# Altium footprint library Specific_Manufacturers.PcbLib: 21 footprints (part 2 of 2)
Each footprint in its own frame and in the unit in brackets; x right, y up, seen from the top. Pads: shape width x height; smd on the part's side, far side on the other; paste and mask are expansions set on the pad; w line width, h text height; cw(c..) or ccw(c..) is an arc to the next point about the centre after c.
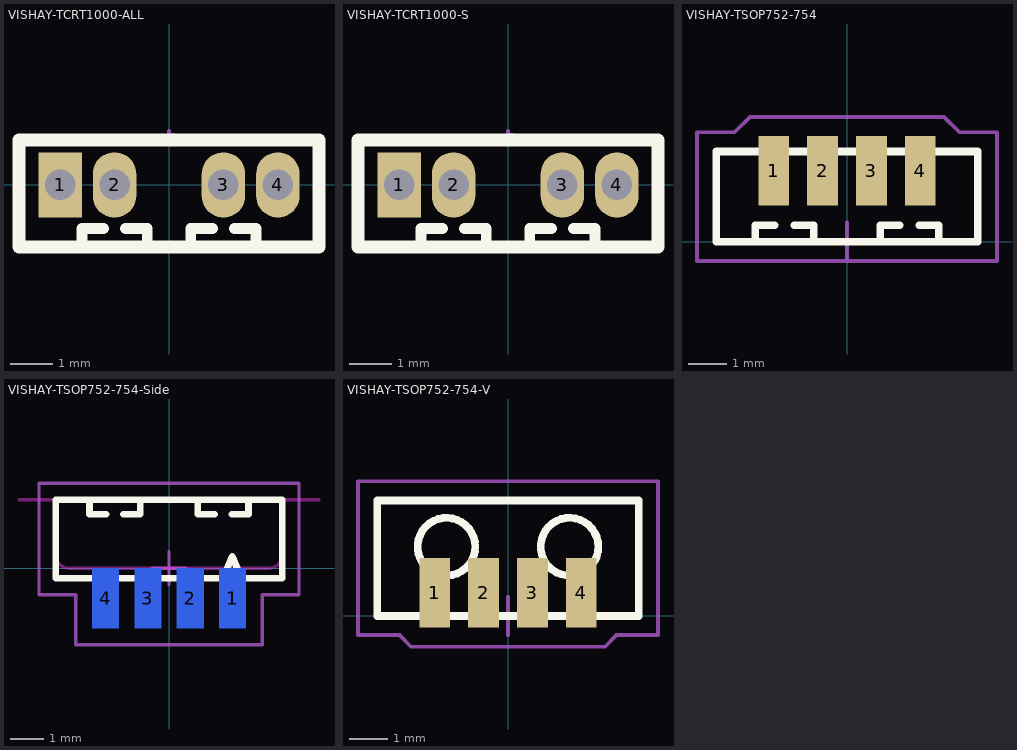
[diagram p1: the footprints below, top view; thin cyan lines are the x and y axes]

## VISHAY-TCRT1000-ALL [mil] "all versions"
pads (4):
  rect 40x60 hole 28: 1(-100,0)
  oval 40x60 hole 28: 2(-50,0) 3(50,0) 4(100,0)
Top Overlay:
  lines w10: -80,-57.09 -80,-40 -60,-40 ; -40,-40 -20,-40 -20,-57.09 ; 20,-57.09 20,-40 40,-40 ; 60,-40 80,-40 80,-57.09
  lines w12: -137.8,-57.09 -137.8,41.34 137.8,41.34 137.8,-57.09 -137.8,-57.09
TopBody:
  lines w0.39: -109.84,-5.9 -109.84,5.91 -90.15,5.91 -90.15,-5.9 -109.84,-5.9 ; -59.84,-5.9 -40.15,-5.9 -40.15,5.91 -59.84,5.91 -59.84,-5.9 ; 40.16,-5.9 40.16,5.91 59.85,5.91 59.85,-5.9 40.16,-5.9 ; 90.16,-5.9 90.16,5.91 109.85,5.91 109.85,-5.9 90.16,-5.9
  lines w3.94: 0,49.61 0,45.67 3.94,45.67
3D body "TCRT1000-S -V.STEP": height 98.43, standoff -27.56, extent -141.72,-5.9 141.74,194.89
3D body: height 7.87, standoff -47.24, extent 90.16,-5.9 109.85,5.91
3D body: height 7.87, standoff -47.24, extent 40.16,-5.9 59.85,5.91
3D body: height 7.87, standoff -47.24, extent -109.84,-5.9 -90.15,5.91
3D body: height 7.87, standoff -47.24, extent -59.84,-5.9 -40.15,5.91
3D body "TCRT1000-S.STEP": height 248.03, standoff -27.56, extent -141.72,-57.08 141.74,41.34
3D body "TCRT1000-S -45.STEP": height 225.41, standoff -27.56, extent -141.72,-14.25 141.74,169.48
3D body "TCRT1000-S -45-S.STEP": height 183.68, standoff -41.73, extent -141.72,-14.25 141.74,169.48
3D body "TCRT1000-45.STEP": height 194.98, standoff -77.68, extent -141.72,-80.83 141.74,191.83

## VISHAY-TCRT1000-S [mil] "Short version : 7mm instead 16.5"
pads (4):
  rect 40x60 hole 28: 1(-100,0)
  oval 40x60 hole 28: 2(-50,0) 3(50,0) 4(100,0)
Top Overlay:
  lines w10: -80,-57.09 -80,-40 -60,-40 ; -40,-40 -20,-40 -20,-57.09 ; 20,-57.09 20,-40 40,-40 ; 60,-40 80,-40 80,-57.09
  lines w12: -137.8,-57.09 -137.8,41.34 137.8,41.34 137.8,-57.09 -137.8,-57.09
TopBody:
  lines w0.39: -109.84,-5.9 -109.84,5.91 -90.15,5.91 -90.15,-5.9 -109.84,-5.9 ; -59.84,-5.9 -40.15,-5.9 -40.15,5.91 -59.84,5.91 -59.84,-5.9 ; 40.16,-5.9 40.16,5.91 59.85,5.91 59.85,-5.9 40.16,-5.9 ; 90.16,-5.9 90.16,5.91 109.85,5.91 109.85,-5.9 90.16,-5.9
  lines w3.94: 0,49.61 0,45.67 3.94,45.67
3D body "TCRT1000-S -V.STEP": height 98.43, standoff -27.56, extent -141.72,-5.9 141.74,194.89
3D body: height 7.87, standoff -47.24, extent 90.16,-5.9 109.85,5.91
3D body: height 7.87, standoff -47.24, extent 40.16,-5.9 59.85,5.91
3D body: height 7.87, standoff -47.24, extent -109.84,-5.9 -90.15,5.91
3D body: height 7.87, standoff -47.24, extent -59.84,-5.9 -40.15,5.91
3D body "TCRT1000-S.STEP": height 248.03, standoff -27.56, extent -141.72,-57.08 141.74,41.34
3D body "TCRT1000-S -45.STEP": height 225.41, standoff -27.56, extent -141.72,-14.25 141.74,169.48
3D body "TCRT1000-S -45-S.STEP": height 183.68, standoff -41.73, extent -141.72,-14.25 141.74,169.48
3D body "TCRT1000-45.STEP": height 194.98, standoff -77.68, extent -141.72,-80.83 141.74,191.83

## VISHAY-TSOP752-754 [mm] "IR Receiver Modules"
height 3
pads (4):
  rect 0.8x1.8 smd: 1(-1.905,1.85) 2(-0.635,1.85) 3(0.635,1.85) 4(1.905,1.85)
Top Overlay:
  lines w0.2: -2.387,0 -2.387,0.434 -1.879,0.434 ; -2.17,2.35 -1.895,1.7 -1.62,2.35 ; -1.371,0.434 -0.863,0.434 -0.863,0 ; 0.863,0 0.863,0.434 1.371,0.434 ; 1.879,0.434 2.387,0.434 2.387,0 ; -3.4,0 -3.4,2.35 3.4,2.35 3.4,0 -3.4,0
TopCourtyard:
  lines w0.1: -0.5,0 0.5,0 ; 0,-0.5 0,0.5 ; -3.9,-0.5 -3.9,2.85 -2.925,2.85 -2.525,3.25 2.525,3.25 2.925,2.85 3.9,2.85 3.9,-0.5 -3.9,-0.5
3D body "TSOP752-754.STEP": height 3, standoff 0, extent -3.4,0 3.4,2.35

## VISHAY-TSOP752-754-Side [mm] "IR Receiver Modules"
height 3
pads (4):
  rect 0.8x1.8 smd far side: 1(1.905,-0.9) 2(0.635,-0.9) 3(-0.635,-0.9) 4(-1.905,-0.9)
Top Overlay:
  lines w0.2: -2.387,2.05 -2.387,1.616 -1.879,1.616 ; -1.371,1.616 -0.863,1.616 -0.863,2.05 ; 0.863,2.05 0.863,1.616 1.371,1.616 ; 1.62,-0.3 1.895,0.35 2.17,-0.3 ; 1.879,1.616 2.387,1.616 2.387,2.05 ; -3.4,-0.3 -3.4,2.05 3.4,2.05 3.4,-0.3 -3.4,-0.3
Keep-Out Layer:
  lines w0.1: -4.5,2.05 -3.4,2.05 ; 4.5,2.05 3.4,2.05 3.4,0.4 cw(c3,0.4) 3,0 -3,0 cw(c-3,0.4) -3.4,0.4 -3.4,2.05 ; -3.4,2.05 -3.4,2.05
TopCourtyard:
  lines w0.1: -0.5,0 0.5,0 ; 0,-0.5 0,0.5 ; -3.9,-0.8 -2.8,-0.8 -2.8,-2.3 2.8,-2.3 2.8,-0.8 3.9,-0.8 3.9,2.55 -3.9,2.55 -3.9,-0.8
3D body "TSOP752-754.STEP": height 0.8, standoff -2.2, extent -3.4,-0.3 3.4,2.05

## VISHAY-TSOP752-754-V [mm] "IR Receiver Modules"
height 2.35
pads (4):
  rect 0.8x1.8 smd: 1(-1.905,0.6) 2(-0.635,0.6) 3(0.635,0.6) 4(1.905,0.6)
Top Overlay:
  circle w0.2: c-1.6,1.8 r0.75
  circle w0.2: c1.6,1.8 r0.75
  lines w0.2: -2.175,0 -1.9,0.65 -1.625,0 ; -3.4,0 -3.4,3 3.4,3 3.4,0 -3.4,0
TopCourtyard:
  lines w0.1: -0.5,0 0.5,0 ; 0,-0.5 0,0.5 ; -3.9,-0.5 -3.9,3.5 3.9,3.5 3.9,-0.5 2.825,-0.5 2.525,-0.8 -2.525,-0.8 -2.825,-0.5 -3.9,-0.5
3D body "TSOP752-754.STEP": height 2.35, standoff 0, extent -3.4,0 3.4,3